# Altium footprint library Diamond Base CAN - 3+ Leads.PcbLib: 4 footprints
Each footprint in its own frame and in the unit in brackets; x right, y up, seen from the top. Pads: shape width x height; smd on the part's side, far side on the other; paste and mask are expansions set on the pad; w line width, h text height; cw(c..) or ccw(c..) is an arc to the next point about the centre after c.
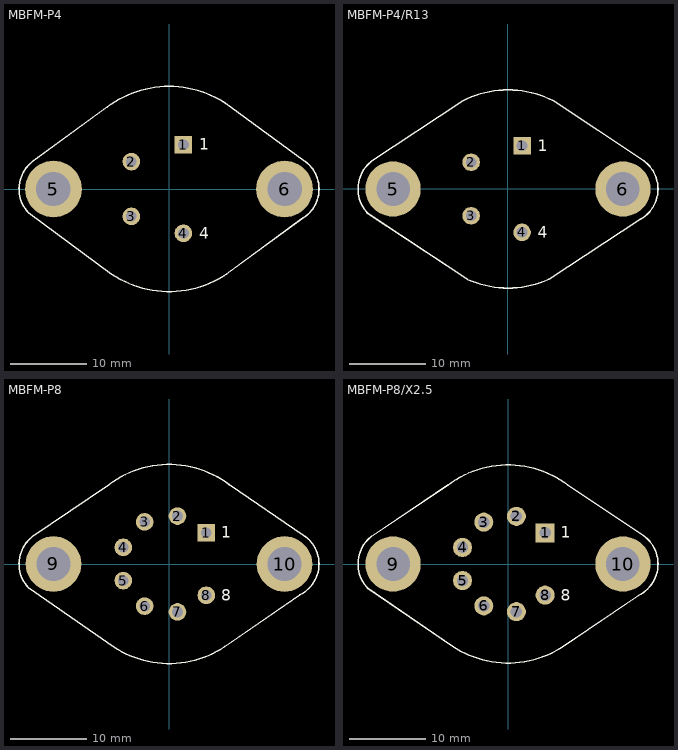
[diagram p0: the footprints below, top view; thin cyan lines are the x and y axes]

## MBFM-P4 [mm] "Oval Flange Mount; 4 Leads; Pin Circle Dia. 11.94 mm; Lead Dia. 1.09 mm (max)"
height 8.89
pads (6):
  rect 2.3x2.3 hole 1.4: 1(1.88,5.779)
  round 2.3 hole 1.4: 2(-4.915,3.571) 3(-4.915,-3.571) 4(1.88,-5.779)
  round 7.4 hole 4.5: 5(-15.075,0) 6(15.075,0)
Top Overlay:
  lines w0.2: 17.324,-3.9 7.511,-11.097 cw(c0,0) -7.481,-11.117 -18.322,-3.115 cw(c-15.075,0) -17.858,3.536 -8.078,10.691 cw(c0,0) 8.105,10.671 17.631,3.704 cw(c15.075,0) 17.325,-3.897
  text "1" at 3.93,5.1 h1.5
  text "4" at 3.93,-6.51 h1.5

## MBFM-P4/R13 [mm] "Oval Flange Mount; 4 Leads; Pin Circle Dia. 11.94 mm; Lead Dia. 1.09 mm (max)"
height 8.89
pads (6):
  rect 2.3x2.3 hole 1.4: 1(1.844,5.677)
  round 2.3 hole 1.4: 2(-4.829,3.508) 3(-4.829,-3.508) 4(1.844,-5.677)
  round 7.25 hole 4.4: 5(-15.075,0) 6(15.075,0)
Top Overlay:
  lines w0.2: -18.53,-3.125 -5.33,-11.825 ; -18.395,-3.184 cw(c-15.075,0) -17.92,3.615 ; -18.03,3.575 -5.93,11.575 ; -5.917,11.575 cw(c0,0) 5.946,11.56 17.87,3.675 ; -5.275,-11.882 ccw(c0,0) 5.307,-11.867 ; 5.37,-11.825 17.47,-3.925 ; 17.375,-3.984 ccw(c15.075,0) 17.688,3.786
  text "1" at 3.93,4.96 h1.5
  text "4" at 3.93,-6.41 h1.5

## MBFM-P8 [mm] "Oval Flange Mount; 8 Leads; Pin Circle Dia. 12.7 mm; Lead Dia. 1.07 mm (max)"
height 7.62
pads (10):
  rect 2.3x2.3 hole 1.4: 1(4.864,4.082)
  round 2.3 hole 1.4: 2(1.103,6.254) 3(-3.175,5.499) 4(-5.967,2.172) 5(-5.967,-2.172) 6(-3.175,-5.499) 7(1.103,-6.254) 8(4.864,-4.082)
  round 7.25 hole 4.4: 9(-15.075,0) 10(15.075,0)
Top Overlay:
  lines w0.2: -7.837,10.372 cw(c0,0) 7.863,10.352 ; -7.815,10.363 -17.858,3.536 ccw(c-15.075,0) -18.322,-3.115 -7.239,-10.803 ; -7.258,-10.785 ccw(c0,0) 7.287,-10.766 ; 7.298,-10.763 17.059,-4.039 ccw(c15.075,0) 17.631,3.704 7.869,10.323
  text "1" at 6.84,3.427 h1.5
  text "8" at 6.84,-4.814 h1.5

## MBFM-P8/X2.5 [mm] "Oval Flange Mount; 8 Leads; Pin Circle Dia. 12.7 mm; Lead Dia. 1.12 mm (max)"
height 10.04
pads (10):
  rect 2.5x2.5 hole 1.5: 1(4.864,4.082)
  round 2.5 hole 1.5: 2(1.102,6.253) 3(-3.175,5.499) 4(-5.967,2.172) 5(-5.967,-2.172) 6(-3.175,-5.499) 7(1.102,-6.254) 8(4.864,-4.082)
  round 7.25 hole 4.4: 9(-15.075,0) 10(15.075,0)
Top Overlay:
  lines w0.2: -17.92,3.615 ccw(c-15.075,0) -18.395,-3.184 -7.258,-10.786 ; -17.92,3.615 -7.837,10.372 cw(c0,0) 7.863,10.352 17.688,3.786 ; -7.258,-10.785 ccw(c0,0) 7.287,-10.766 17.103,-4.129 ccw(c15.075,0) 17.688,3.786
  text "8" at 6.9,-4.814 h1.5
  text "1" at 6.9,3.427 h1.5